# EAGLE library part TPD3S014DBVR (library TPD3S014DBVR)
Current Limit Load Sw & TVS 0.5A SOT23-6 Texas Instruments TPD3S014DBVR Load Switch IC, Current Limit Switch, 4.5 5.5V, 6-Pin, SOT-23 Source: Datasheet <http://www.ti.com/lit/ds/symlink/tpd3s044.pdf>
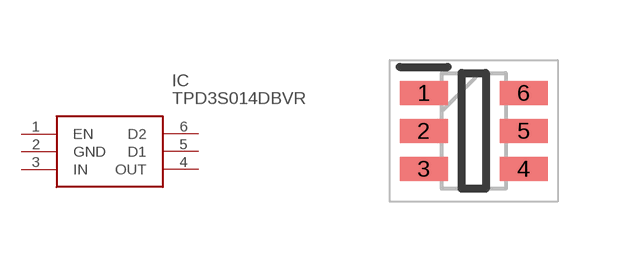
[diagram p0: symbol with the pads of SOT95P280X145-6N; footprint SOT95P280X145-6N]

Designator prefix IC

## TPD3S014DBVR (Arrow_Part_Number: TPD3S014DBVR; Arrow_Price-Stock: https://www.arrow.com/en/products/tpd3s014dbvr/texas-instruments?region=nac; Description: Current Limit Load Sw & TVS 0.5A SOT23-6 Texas Instruments TPD3S014DBVR Load Switch IC, Current Limit Switch, 4.5 5.5V, 6-Pin, SOT-23; Height: 1.45mm; Manufacturer_Name: Texas Instruments; Manufacturer_Part_Number: TPD3S014DBVR; Mouser_Part_Number: 595-TPD3S014DBVR; Mouser_Price-Stock: https://www.mouser.co.uk/ProductDetail/Texas-Instruments/TPD3S014DBVR?qs=1CfNGUMoiQ%252BDmiZShdlX0g%3D%3D)  [SOT95P280X145-6N]
1  EN
2  GND
3  IN
4  OUT
5  D1
6  D2

## Footprint SOT95P280X145-6N (pad centres in mm)
TPD3S014DBVR
smd 1.2 x 0.6: 1 -1.25,0.95; 2 -1.25,0; 3 -1.25,-0.95; 4 1.25,-0.95; 5 1.25,0; 6 1.25,0.95